# Altium integrated library SR733ATTER165F.IntLib: 1 symbol
Pins are listed as number, name and electrical type; pins without a type are passive.

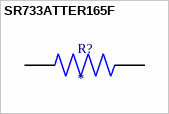
[diagram p0: symbol SR733ATTER165F]

## SR733ATTER165F
designator R?
2512 Lo-ohm Thick Film Current Sense Resistors 1watts 0.165ohms 1%; MP: SR733ATTER165F; Package: None; Price: None; Value: *; Availability: Unavailable
footprint RESC6432X70N
pins: 1, 2